# Altium schematic symbol library Transistors.SchLib: 5 symbols
Pins are listed as number, name and electrical type; pins without a type are passive.

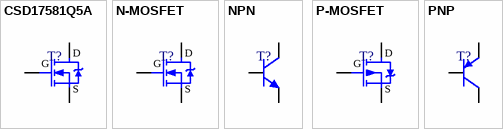
[diagram p0: symbols CSD17581Q5A to PNP]

## CSD17581Q5A
designator T?
CSD17581Q5A 30-V N-Channel NexFET™ Power MOSFETs; Manufacturer: Texas Instruments; Manufacturer Part Number: CSD17581Q5AT; Element Configuration: Single; Drain to Source Voltage (Vdss): 30V; Continuous Drain Current (ID): 123A; Rds On Max: 3.4mR; Input Capacitance: 3.64nF; Max Power Dissipation: 3.1W; Supplier 1: Digi-Key; Stock 1: 1291; Pricing 1: 1 = 0.90000, 10 = 0.80800, 25 = 0.76720, 100 = 0.57540 (USD); RoHS: Yes; Mount: Surface Mount; Number of Pins: 8; Min Operating Temperature: -55°C; Max Operating Temperature: 150°C; Packaging: Cut Tape; Lead Free: Contains Lead; ComponentLink1URL: http://www.ti.com/lit/ds/symlink/csd17581q5a.pdf?src-supplier=Digi-Key; ComponentLink1Description: http://www.ti.com/lit/ds/symlink/csd17581q5a.pdf?src-supplier=Digi-Key; Supplier Part Number 1: 296-44867-1-ND
footprint Q5A
pins: 1 S, 2 G, 3 D
1 alternate drawing of the same symbol

## N-MOSFET
designator T?  (value not drawn)
Unipolar transistor N-MOSFET; Value: *
footprint SOT23 (SOT23, 3-Leads, Body 2.90x2.40mm, Pitch 0.95mm, IPC Medium Density)
pins: 1 G, 2 S, 3 D
1 alternate drawing of the same symbol

## NPN
designator T?  (value not drawn)
Bipolar transistor NPN; Value: *
footprint SOT323, 3-Lead
pins: 1 B, 2 E, 3 C

## P-MOSFET
designator T?  (value not drawn)
Unipolar transistor P-MOSFET; Value: *
footprint SOT23 (SOT23, 3-Leads, Body 2.90x2.40mm, Pitch 0.95mm, IPC Medium Density)
pins: 1 G, 2 D, 3 S
1 alternate drawing of the same symbol

## PNP
designator T?  (value not drawn)
Bipolar transistor PNP; Value: *
pins: 1 B, 2 E, 3 C